# Altium schematic symbol library ic-interface.SchLib: 38 symbols
Pins are listed as number, name and electrical type; pins without a type are passive.

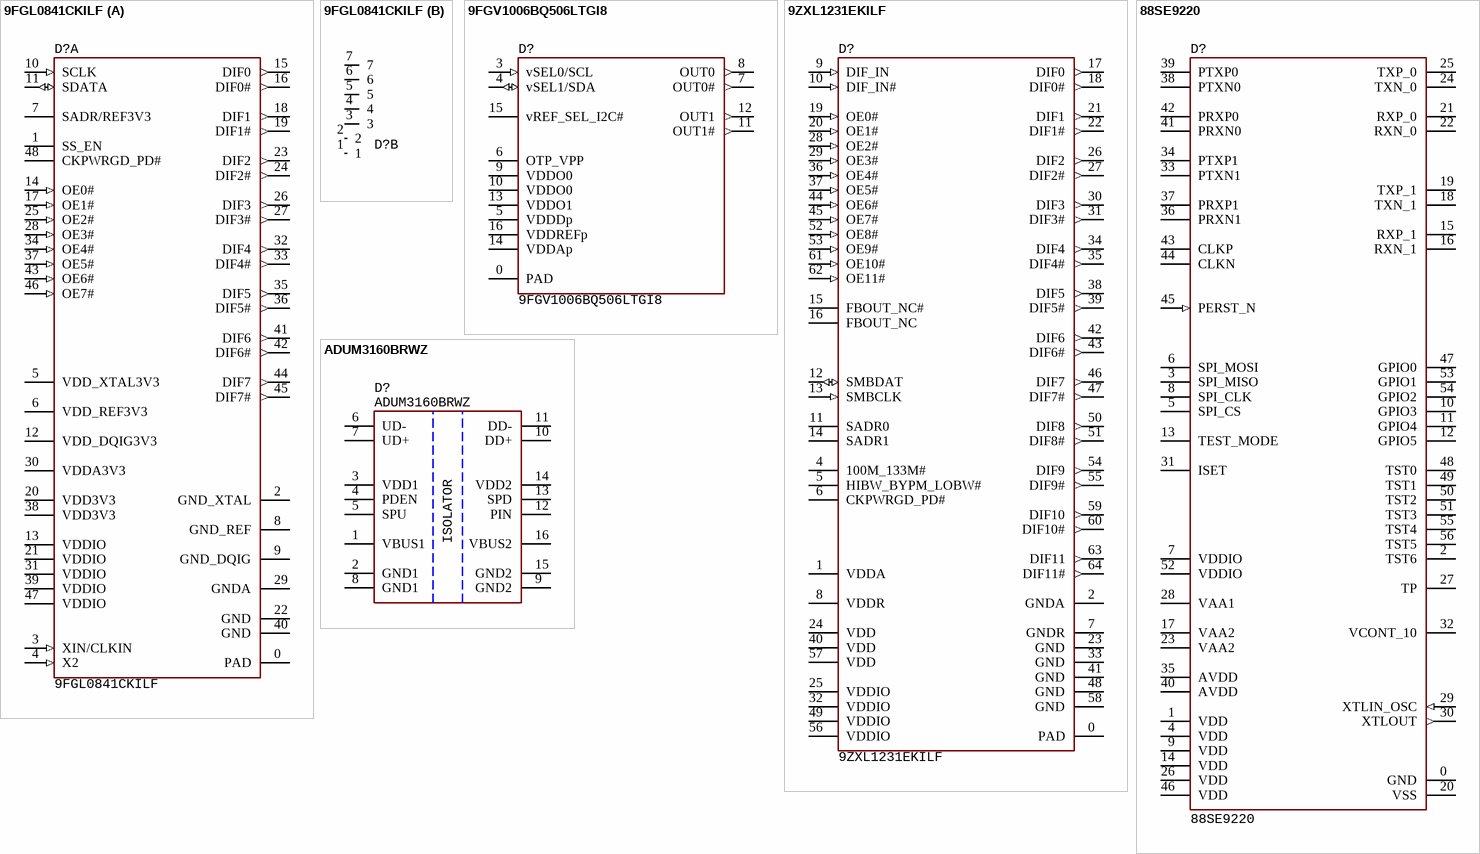
[diagram p0: symbols 9FGL0841CKILF to ADUM3160BRWZ]

## 9FGL0841CKILF
designator D?
Clock Generator, 40 MHz max , 8 output, 50 ps, QFN-48, 3.135...3.465V, -40...+85°C; Manufacturer: Renesans; Manufacturer: Renesas; Package: QFN-48 (6x6); HelpURL: https://ru.mouser.com/ProductDetail/Renesas-IDT/9FGL0841CKILFT?qs=%2Fha2pyFaduhGEOA8c4vMfD8OTnq%2FdZbzgoKZXaJtWyD7utYW6p9OZw%3D%3D; Manufacturer Part Number: 9FGL0841CKILF; Component Type: Oscillators; PartNumber: 9FGL0841CKILF
footprint 48-QFN (6x6, pitch 0.4) (6x6 mm, pitch 0.4 mm, power pad)
part A pins: 0 PAD, 1 SS_EN, 2 GND_XTAL, 3 XIN/CLKIN (in), 4 X2 (in), 5 VDD_XTAL3V3, 6 VDD_REF3V3, 7 SADR/REF3V3, 8 GND_REF, 9 GND_DQIG, 10 SCLK (in), 11 SDATA (io), 12 VDD_DQIG3V3, 13 VDDIO, 14 OE0# (in), 15 DIF0 (out), 16 DIF0# (out), 17 OE1# (in), 18 DIF1 (out), 19 DIF1# (out), 20 VDD3V3, 21 VDDIO, 22 GND, 23 DIF2 (out), 24 DIF2# (out), 25 OE2# (in), 26 DIF3 (out), 27 DIF3# (out), 28 OE3# (in), 29 GNDA, 30 VDDA3V3, 31 VDDIO, 32 DIF4 (out), 33 DIF4# (out), 34 OE4# (in), 35 DIF5 (out), 36 DIF5# (out), 37 OE5# (in), 38 VDD3V3, 39 VDDIO, 40 GND, 41 DIF6 (out), 42 DIF6# (out), 43 OE6# (in), 44 DIF7 (out), 45 DIF7# (out), 46 OE7# (in), 47 VDDIO, 48 CKPWRGD_PD#
part B pins: 1, 2, 3, 4, 5, 6, 7

## 9FGV1006BQ506LTGI8
designator D?
Clock Generator, 100 MHz, 2 output, 276 fs, LGA-16, 1.71...3.465V, -40...+85°C; Manufacturer: Renesans; Manufacturer: Renesas; Package: LGA-16 (3x3); HelpURL: https://ru.mouser.com/ProductDetail/Renesas-IDT/9FGV1006BQ506LTGI8?qs=qSfuJ%252Bfl%2Fd4WZSWAGC5GJw%3D%3D; Manufacturer Part Number: 9FGV1006BQ506LTGI8; Component Type: Oscillators; PartNumber: 9FGV1006BQ506LTGI8
footprint 16-LGA (3x3) (3x3 mm, pitch 0.5 mm)
pins: 0 PAD, 3 vSEL0/SCL (in), 4 vSEL1/SDA (io), 5 VDDDp, 6 OTP_VPP, 7 OUT0# (out), 8 OUT0 (out), 9 VDDO0, 10 VDDO0, 11 OUT1# (out), 12 OUT1 (out), 13 VDDO1, 14 VDDAp, 15 vREF_SEL_I2C#, 16 VDDREFp

## 9ZXL1231EKILF
designator D?
Clock Buffer, 150 MHz, 12 output, 40 fs, QFN-64, 3.135...3.465V, -40...+85°C; Manufacturer: Renesans; Manufacturer: IDT; Package: QFN-64 (9x9); HelpURL: https://ru.mouser.com/ProductDetail/Renesas-IDT/9ZXL1231EKILF?qs=r5DSvlrkXmKe8Sr8YG1BGw%3D%3D; Manufacturer Part Number: 9ZXL1231EKILF; Component Type: Oscillators; PartNumber: 9ZXL1231EKILF
footprint 64-QFN (9x9, pitch 0.5) (9x9 mm, pitch 0.5 mm, power pad)
pins: 0 PAD, 1 VDDA, 2 GNDA, 4 100M_133M#, 5 HIBW_BYPM_LOBW#, 6 CKPWRGD_PD#, 7 GNDR, 8 VDDR, 9 DIF_IN (in), 10 DIF_IN# (in), 11 SADR0, 12 SMBDAT (io), 13 SMBCLK (in), 14 SADR1, 15 FBOUT_NC#, 16 FBOUT_NC, 17 DIF0 (out), 18 DIF0# (out), 19 OE0# (in), 20 OE1# (in), 21 DIF1 (out), 22 DIF1# (out), 23 GND, 24 VDD, 25 VDDIO, 26 DIF2 (out), 27 DIF2# (out), 28 OE2# (in), 29 OE3# (in), 30 DIF3 (out), 31 DIF3# (out), 32 VDDIO, 33 GND, 34 DIF4 (out), 35 DIF4# (out), 36 OE4# (in), 37 OE5# (in), 38 DIF5 (out), 39 DIF5# (out), 40 VDD, 41 GND, 42 DIF6 (out), 43 DIF6# (out), 44 OE6# (in), 45 OE7# (in), 46 DIF7 (out), 47 DIF7# (out), 48 GND, 49 VDDIO, 50 DIF8 (out), 51 DIF8# (out), 52 OE8# (in), 53 OE9# (in), 54 DIF9 (out), 55 DIF9# (out), 56 VDDIO, 57 VDD, 58 GND, 59 DIF10 (out), 60 DIF10# (out), 61 OE10# (in), 62 OE11# (in), 63 DIF11 (out), 64 DIF11# (out)

## 88SE9220
designator D?
PCIe Gen 2 to SATA, 2 HDDs, 6 GB/s, QFN-56, -40...+85°C; Manufacturer: Marvell; HelpURL: https://www.jmicron.com/products/list/15; Package: QFN-56; PartNumber: 88SE9220
footprint 56-QFN (7x7, pitch 0.4) (7x7 mm, pitch 0.4 mm, power pad)
pins: 0 GND, 1 VDD, 2 TST6, 3 SPI_MISO, 4 VDD, 5 SPI_CS, 6 SPI_MOSI, 7 VDDIO, 8 SPI_CLK, 9 VDD, 10 GPIO3, 11 GPIO4, 12 GPIO5, 13 TEST_MODE, 14 VDD, 15 RXP_1, 16 RXN_1, 17 VAA2, 18 TXN_1, 19 TXP_1, 20 VSS, 21 RXP_0, 22 RXN_0, 23 VAA2, 24 TXN_0, 25 TXP_0, 26 VDD, 27 TP, 28 VAA1, 29 XTLIN_OSC (in), 30 XTLOUT (out), 31 ISET, 32 VCONT_10, 33 PTXN1, 34 PTXP1, 35 AVDD, 36 PRXN1, 37 PRXP1, 38 PTXN0, 39 PTXP0, 40 AVDD, 41 PRXN0, 42 PRXP0, 43 CLKP, 44 CLKN, 45 PERST_N (in), 46 VDD, 47 GPIO0, 48 TST0, 49 TST1, 50 TST2, 51 TST3, 52 VDDIO, 53 GPIO1, 54 GPIO2, 55 TST4, 56 TST5

## ADUM3160BRWZ
designator D?
USB isolator, 12 Mb/s, supply 3.1...5.5V, 2500 Vrms, SOIC-16, -40...+85°C; Manufacture: Analog Devices; HelpURL: https://eu.mouser.com/ProductDetail/Analog-Devices/ADUM3160BRWZ?qs=WIvQP4zGanjmPiCfFUKkZQ%3D%3D; Package: SOIC-16; PartNumber: ADUM3160BRWZ
footprint 16-TSSOP (pitch 1.27 mm)
pins: 1 VBUS1, 2 GND1, 3 VDD1, 4 PDEN, 5 SPU, 6 UD-, 7 UD+, 8 GND1, 9 GND2, 10 DD+, 11 DD-, 12 PIN, 13 SPD, 14 VDD2, 15 GND2, 16 VBUS2
text: ISOLATOR

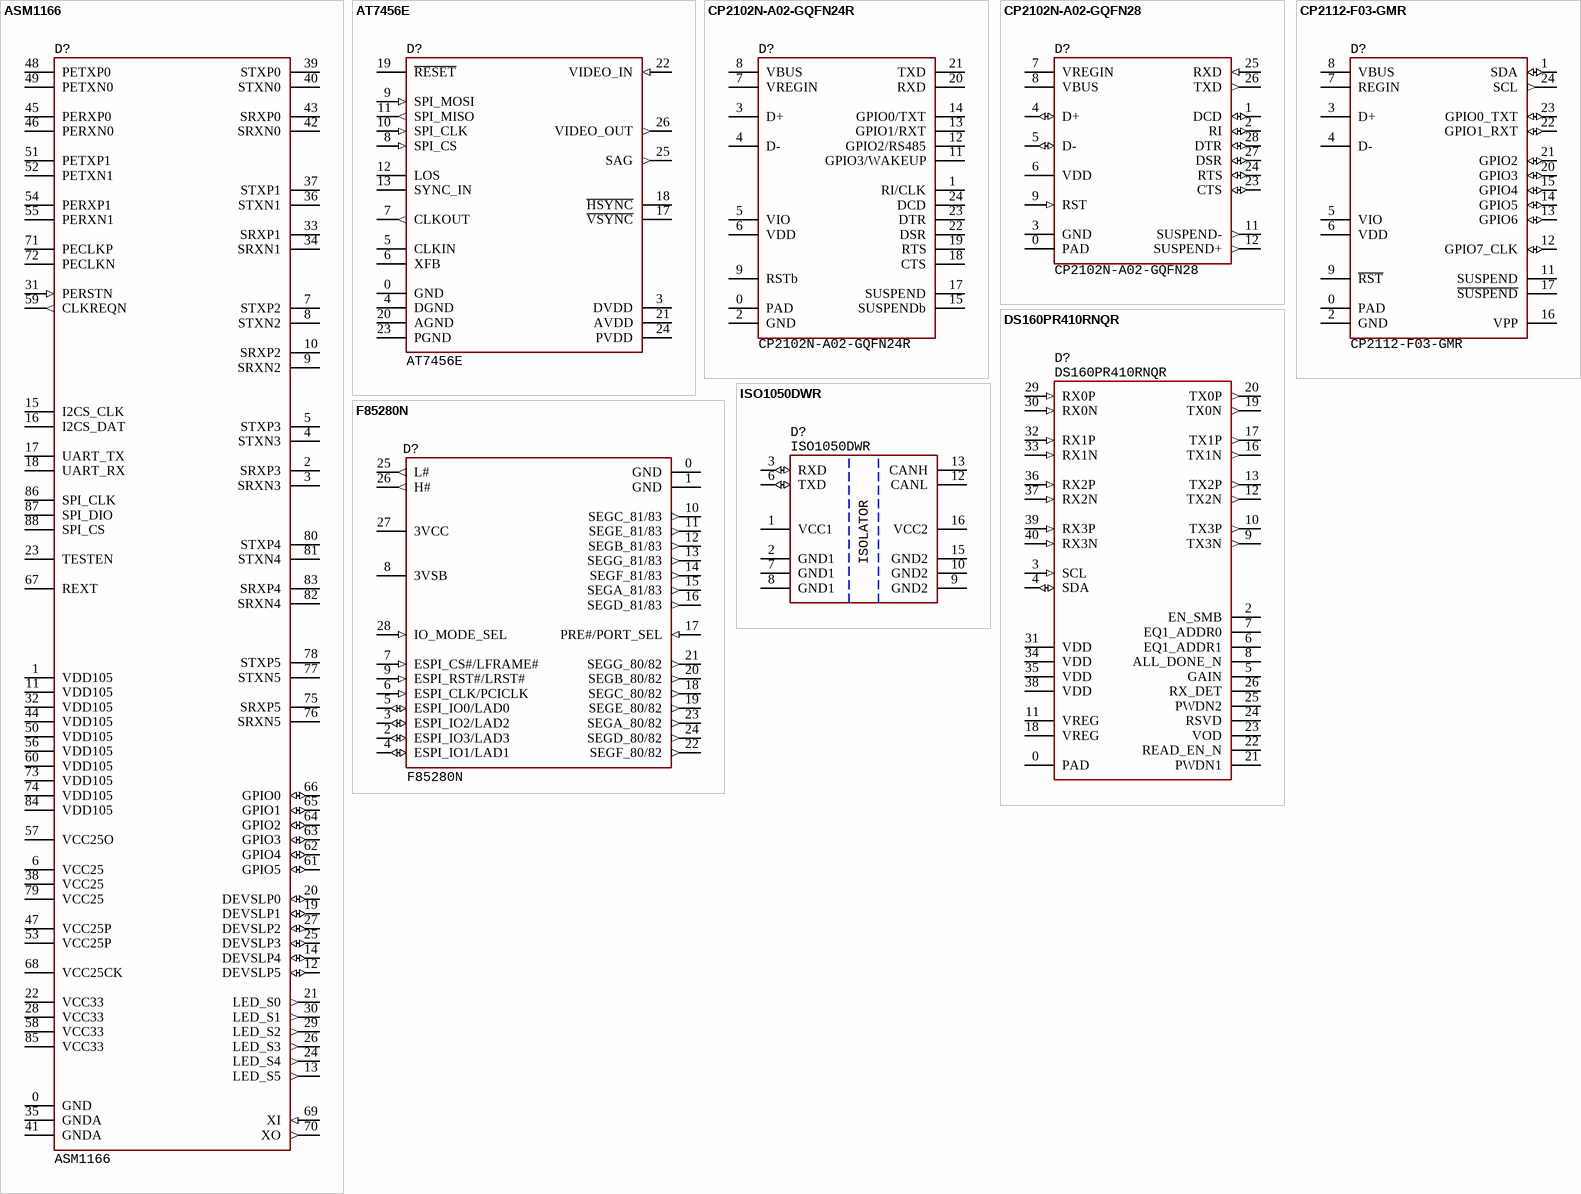
[diagram p1: symbols ASM1166 to ISO1050DWR]

## ASM1166
designator D?
PCIe Gen 2 to SATA, 6 HDDs, 6 GB/s, QFN-88, -40...+85°C; Manufacturer: ASMedia; HelpURL: https://www.asmedia.com.tw/product/45aYq54sP8Qh7WH8/58dYQ8bxZ4UR9wG5; Package: QFN-88; PartNumber: ASM1166
footprint 88-QFN (10x10, pitch 0.4) (10x10 mm, pitch 0.4 mm, power pad)
pins: 0 GND, 1 VDD105, 2 SRXP3, 3 SRXN3, 4 STXN3, 5 STXP3, 6 VCC25, 7 STXP2, 8 STXN2, 9 SRXN2, 10 SRXP2, 11 VDD105, 12 DEVSLP5 (io), 13 LED_S5 (out), 14 DEVSLP4 (io), 15 I2CS_CLK, 16 I2CS_DAT, 17 UART_TX, 18 UART_RX, 19 DEVSLP1 (io), 20 DEVSLP0 (io), 21 LED_S0 (out), 22 VCC33, 23 TESTEN, 24 LED_S4 (out), 25 DEVSLP3 (io), 26 LED_S3 (out), 27 DEVSLP2 (io), 28 VCC33, 29 LED_S2 (out), 30 LED_S1 (out), 31 PERSTN (in), 32 VDD105, 33 SRXP1, 34 SRXN1, 35 GNDA, 36 STXN1, 37 STXP1, 38 VCC25, 39 STXP0, 40 STXN0, 41 GNDA, 42 SRXN0, 43 SRXP0, 44 VDD105, 45 PERXP0, 46 PERXN0, 47 VCC25P, 48 PETXP0, 49 PETXN0, 50 VDD105, 51 PETXP1, 52 PETXN1, 53 VCC25P, 54 PERXP1, 55 PERXN1, 56 VDD105, 57 VCC25O, 58 VCC33, 59 CLKREQN (out), 60 VDD105, 61 GPIO5 (io), 62 GPIO4 (io), 63 GPIO3 (io), 64 GPIO2 (io), 65 GPIO1 (io), 66 GPIO0 (io), 67 REXT, 68 VCC25CK, 69 XI (in), 70 XO (out), 71 PECLKP, 72 PECLKN, 73 VDD105, 74 VDD105, 75 SRXP5, 76 SRXN5, 77 STXN5, 78 STXP5, 79 VCC25, 80 STXP4, 81 STXN4, 82 SRXN4, 83 SRXP4, 84 VDD105, 85 VCC33, 86 SPI_CLK, 87 SPI_DIO, 88 SPI_CS

## AT7456E
designator D?
OSD generator, supply 3.15...5.25V, TSSOP-28, -40...+85°C; Manufacturer: ZHONGKEWEI; HelpURL: https://lcsc.com/product-detail/Microcontroller-Units-MCUs-MPUs-SOCs_ZHONGKEWEI-AT7456E_C82351.html; Package: TSSOP-28; PartNumber: AT7456E
footprint 28-TSSOP-PAD (pitch 0.65 mm)
pins: 0 GND, 3 DVDD, 4 DGND, 5 CLKIN, 6 XFB, 7 CLKOUT (out), 8 SPI_CS (in), 9 SPI_MOSI (in), 10 SPI_CLK (in), 11 SPI_MISO (out), 12 LOS, 13 SYNC_IN, 17 ~{VSYNC}, 18 ~{HSYNC}, 19 ~{RESET}, 20 AGND, 21 AVDD, 22 VIDEO_IN (in), 23 PGND, 24 PVDD, 25 SAG (out), 26 VIDEO_OUT (out)

## CP2102N-A02-GQFN24R
designator D?
USB-to-UART, USB2.0, QFN-24, 3...3.6V, -40...+85°C; Manufacturer: Silicon Labs; Package: QFN-24; HelpURL: https://www.digikey.com/product-detail/en/silicon-labs/CP2102N-A02-GQFN28/336-5889-ND/9863477; PartNumber: CP2102N-A02-GQFN24R
footprint 24-QFN (4x4, pitch 0.5) (4x4 mm, pitch 0.5 mm, power pad)
pins: 0 PAD, 1 RI/CLK, 2 GND, 3 D+, 4 D-, 5 VIO, 6 VDD, 7 VREGIN, 8 VBUS, 9 RSTb, 11 GPIO3/WAKEUP, 12 GPIO2/RS485, 13 GPIO1/RXT, 14 GPIO0/TXT, 15 SUSPENDb, 17 SUSPEND, 18 CTS, 19 RTS, 20 RXD, 21 TXD, 22 DSR, 23 DTR, 24 DCD

## CP2102N-A02-GQFN28
designator D?  PartNumber: CP2102N-A02-GQFN28
USB-to-UART, USB2.0, QFN-28, 3...3.6V, -40...+85°C; Manufacturer: Silicon Labs; HelpURL: https://www.digikey.com/product-detail/en/silicon-labs/CP2102N-A02-GQFN28/336-5889-ND/9863477; Package: QFN-28
footprint 28-QFN (5x5, pitch 0.5) (5x5 mm, pitch 0.5 mm, power pad)
pins: 0 PAD, 1 DCD (io), 2 RI (io), 3 GND, 4 D+ (io), 5 D- (io), 6 VDD, 7 VREGIN, 8 VBUS, 9 RST (in), 11 SUSPEND- (out), 12 SUSPEND+ (out), 23 CTS (io), 24 RTS (io), 25 RXD (in), 26 TXD (out), 27 DSR (io), 28 DTR (io)

## CP2112-F03-GMR
designator D?
USB-to-I2C, USB2.0, QFN-24, 3...3.6V, -40...+85°C; Manufacturer: Silicon Labs; Package: QFN-24; HelpURL: https://nl.mouser.com/ProductDetail/Silicon-Labs/CP2112-F03-GMR?qs=5aG0NVq1C4xTtcRh7H2oKQ%3D%3D; PartNumber: CP2112-F03-GMR
footprint 24-QFN (4x4, pitch 0.5) (4x4 mm, pitch 0.5 mm, power pad)
pins: 0 PAD, 1 SDA (io), 2 GND, 3 D+, 4 D-, 5 VIO, 6 VDD, 7 REGIN, 8 VBUS, 9 ~{RST}, 11 SUSPEND, 12 GPIO7_CLK (io), 13 GPIO6 (io), 14 GPIO5 (io), 15 GPIO4 (io), 16 VPP, 17 ~{SUSPEND}, 20 GPIO3 (io), 21 GPIO2 (io), 22 GPIO1_RXT (io), 23 GPIO0_TXT (io), 24 SCL (out)

## DS160PR410RNQR
designator D?
Redriver, PCIe Gen 4, 25 GT/s, supply 3...3.6V, 150 mA, -40...+85°C; Manufacture: Texas Instruments; HelpURL: https://eu.mouser.com/ProductDetail/Texas-Instruments/DS160PR410RNQT?qs=BJlw7L4Cy7%252Bot0MDZ1LsrA%3D%3D; Package: WQFN-40; PartNumber: DS160PR410RNQR
footprint 40-WQFN (6x4, pitch 0.4) (PQFN, 40-Leads, Body 6,00x4,00mm, Pitch 0,40mm, Thermal Pad 4,70x2,70mm, IPC Medium Density)
pins: 0 PAD, 2 EN_SMB, 3 SCL (in), 4 SDA (io), 5 GAIN, 6 EQ1_ADDR1, 7 EQ1_ADDR0, 8 ALL_DONE_N, 9 TX3N (out), 10 TX3P (out), 11 VREG, 12 TX2N (out), 13 TX2P (out), 16 TX1N (out), 17 TX1P (out), 18 VREG, 19 TX0N (out), 20 TX0P (out), 21 PWDN1, 22 READ_EN_N, 23 VOD, 24 RSVD, 25 PWDN2, 26 RX_DET, 29 RX0P (in), 30 RX0N (in), 31 VDD, 32 RX1P (in), 33 RX1N (in), 34 VDD, 35 VDD, 36 RX2P (in), 37 RX2N (in), 38 VDD, 39 RX3P (in), 40 RX3N (in)

## F85280N
designator D?
LPC eSPI interface, 3.3V, QFN-28, -40...+85°C; Manufacturer: Fintek; Package: 28-QFN; HelpURL: https://www.fintek.com.tw/index.php/products/i-o-controller-and-i-f-management/item/187-f85280; PartNumber: F85280N
footprint 28-QFN (4x4, pitch 0.45) (4x4 mm, pitch 0.45 mm, power pad)
pins: 0 GND (power), 1 GND (power), 2 ESPI_IO3/LAD3 (io), 3 ESPI_IO2/LAD2 (io), 4 ESPI_IO1/LAD1 (io), 5 ESPI_IO0/LAD0 (io), 6 ESPI_CLK/PCICLK (in), 7 ESPI_CS#/LFRAME# (in), 8 3VSB (power), 9 ESPI_RST#/LRST# (in), 10 SEGC_81/83 (out), 11 SEGE_81/83 (out), 12 SEGB_81/83 (out), 13 SEGG_81/83 (out), 14 SEGF_81/83 (out), 15 SEGA_81/83 (out), 16 SEGD_81/83 (out), 17 PRE#/PORT_SEL (in), 18 SEGC_80/82 (out), 19 SEGE_80/82 (out), 20 SEGB_80/82 (out), 21 SEGG_80/82 (out), 22 SEGF_80/82 (out), 23 SEGA_80/82 (out), 24 SEGD_80/82 (out), 25 L# (out), 26 H# (out), 27 3VCC (power), 28 IO_MODE_SEL (in)

## ISO1050DWR
designator D?
CAN isolator, 1 Mb/s, supply 3...5.5V, 5000 Vrms, -55...+105°C; Manufacturer: Texas Instruments; HelpURL: https://eu.mouser.com/ProductDetail/Texas-Instruments/ISO1050DWR?qs=GI4%2FryNtbd1EIRlQ1wb3OA%3D%3D; Package: TSSOP-16; PartNumber: ISO1050DWR
footprint 16-TSSOP (pitch 1.27 mm)
pins: 1 VCC1, 2 GND1, 3 RXD (io), 6 TXD (io), 7 GND1, 8 GND1, 9 GND2, 10 GND2, 12 CANL, 13 CANH, 15 GND2, 16 VCC2
text: ISOLATOR

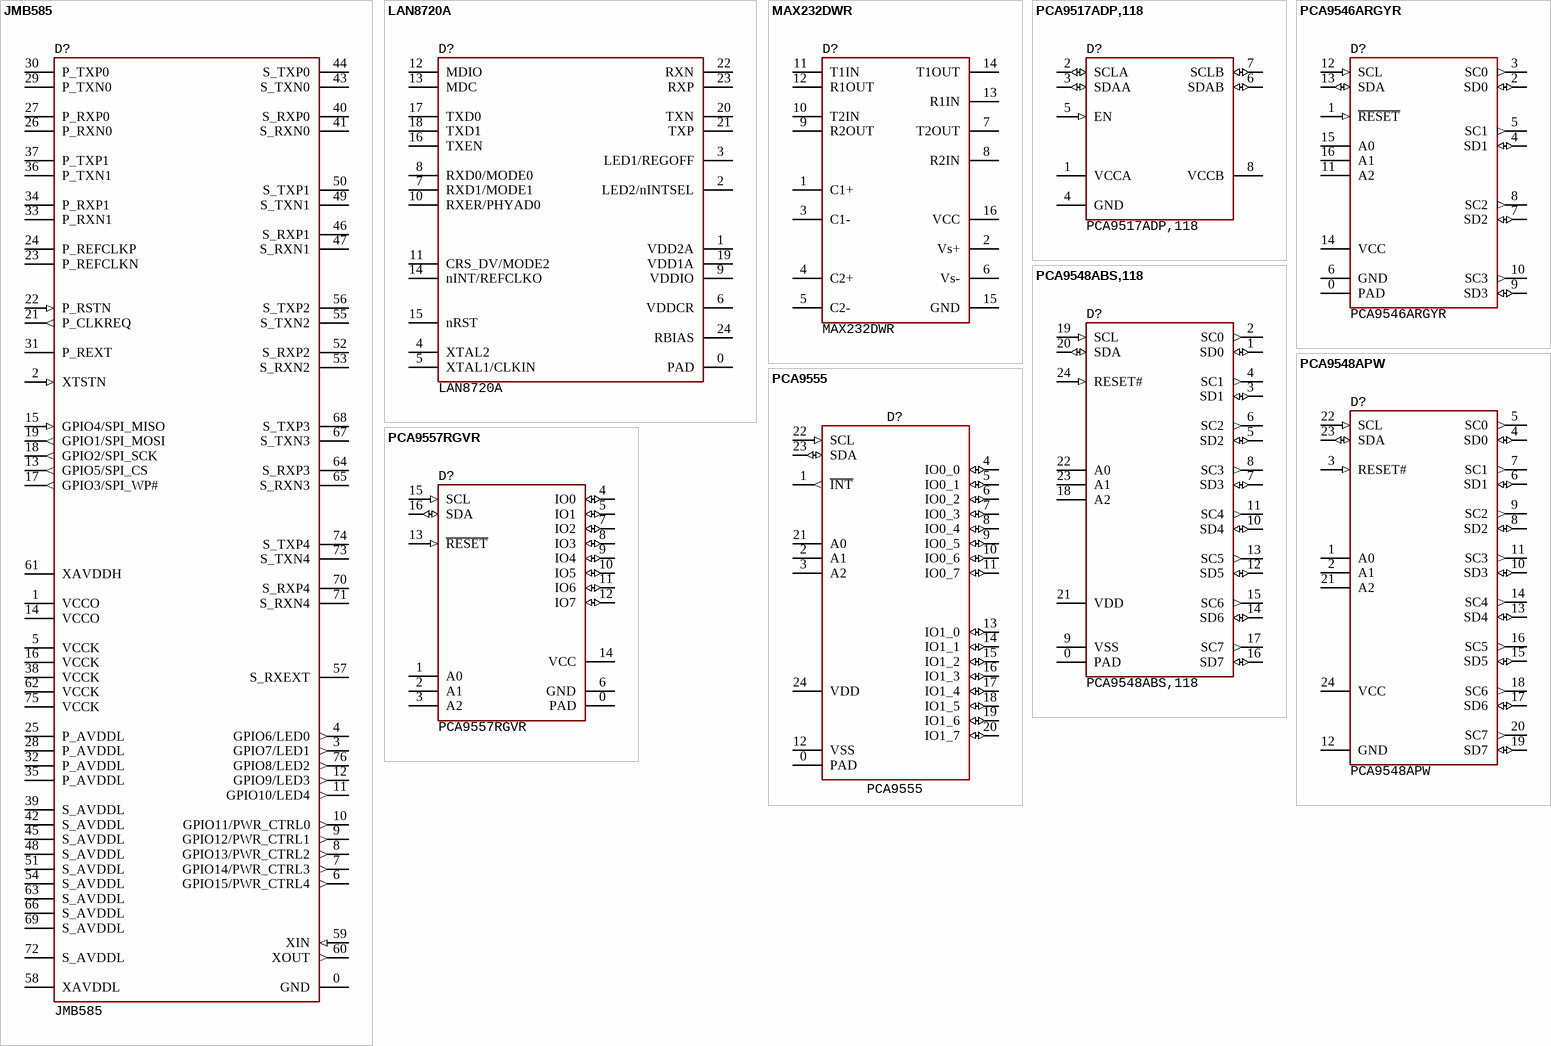
[diagram p2: symbols JMB585 to PCA9557RGVR]

## JMB585
designator D?
PCIe Gen 3 to SATA, 5 HDDs, 6 GB/s, QFN-76, -40...+85°C; Manufacturer: JMicron; HelpURL: https://www.jmicron.com/products/list/15; Package: QFN-76; PartNumber: JMB585
footprint 76-QFN (9x9, pitch 0.4) (9x9 mm, pitch 0.4 mm, power pad)
pins: 0 GND, 1 VCCO, 2 XTSTN (in), 3 GPIO7/LED1 (out), 4 GPIO6/LED0 (out), 5 VCCK, 6 GPIO15/PWR_CTRL4 (out), 7 GPIO14/PWR_CTRL3 (out), 8 GPIO13/PWR_CTRL2 (out), 9 GPIO12/PWR_CTRL1 (out), 10 GPIO11/PWR_CTRL0 (out), 11 GPIO10/LED4 (out), 12 GPIO9/LED3 (out), 13 GPIO5/SPI_CS (out), 14 VCCO, 15 GPIO4/SPI_MISO (in), 16 VCCK, 17 GPIO3/SPI_WP# (out), 18 GPIO2/SPI_SCK (out), 19 GPIO1/SPI_MOSI (out), 21 P_CLKREQ (out), 22 P_RSTN (in), 23 P_REFCLKN, 24 P_REFCLKP, 25 P_AVDDL, 26 P_RXN0, 27 P_RXP0, 28 P_AVDDL, 29 P_TXN0, 30 P_TXP0, 31 P_REXT, 32 P_AVDDL, 33 P_RXN1, 34 P_RXP1, 35 P_AVDDL, 36 P_TXN1, 37 P_TXP1, 38 VCCK, 39 S_AVDDL, 40 S_RXP0, 41 S_RXN0, 42 S_AVDDL, 43 S_TXN0, 44 S_TXP0, 45 S_AVDDL, 46 S_RXP1, 47 S_RXN1, 48 S_AVDDL, 49 S_TXN1, 50 S_TXP1, 51 S_AVDDL, 52 S_RXP2, 53 S_RXN2, 54 S_AVDDL, 55 S_TXN2, 56 S_TXP2, 57 S_RXEXT, 58 XAVDDL, 59 XIN (in), 60 XOUT (out), 61 XAVDDH, 62 VCCK, 63 S_AVDDL, 64 S_RXP3, 65 S_RXN3, 66 S_AVDDL, 67 S_TXN3, 68 S_TXP3, 69 S_AVDDL, 70 S_RXP4, 71 S_RXN4, 72 S_AVDDL, 73 S_TXN4, 74 S_TXP4, 75 VCCK, 76 GPIO8/LED2 (out)

## LAN8720A
designator D?  PartNumber: LAN8720A
Ethernet PHY, 10/100 Mbps, RMII, supply 1.6...3.6V, QFN-24, 0...+85°C; Manufacturer: Microchip Technology; HelpURL: https://www.digikey.com/en/products/detail/microchip-technology/LAN8720A-CP-ABC/6192901; Package: 24-QFN (4x4); ComponentType: IC ethernet transceiver
footprint 24-QFN (4x4, pitch 0.5) (4x4 mm, pitch 0.5 mm, power pad)
pins: 0 PAD, 1 VDD2A, 2 LED2/nINTSEL, 3 LED1/REGOFF, 4 XTAL2, 5 XTAL1/CLKIN, 6 VDDCR, 7 RXD1/MODE1, 8 RXD0/MODE0, 9 VDDIO, 10 RXER/PHYAD0, 11 CRS_DV/MODE2, 12 MDIO, 13 MDC, 14 nINT/REFCLKO, 15 nRST, 16 TXEN, 17 TXD0, 18 TXD1, 19 VDD1A, 20 TXN, 21 TXP, 22 RXN, 23 RXP, 24 RBIAS

## MAX232DWR
designator D?
RS232-to-UART, USB2.0, TSSOP-16, supply 4.5...5.5V, -65...+150°C; Manufacturer: Texas Instruments; HelpURL: https://ru.mouser.com/ProductDetail/Texas-Instruments/MAX232DWR?qs=w32V8uFkMxnk27vwdDfeiw%3D%3D; Package: 16-TSSOP; Manufacturer Part Number: MAX232DWR; Component Type: Interface; PartNumber: MAX232DWR
footprint 16-TSSOP (pitch 1.27 mm)
pins: 1 C1+, 2 Vs+, 3 C1-, 4 C2+, 5 C2-, 6 Vs-, 7 T2OUT, 8 R2IN, 9 R2OUT, 10 T2IN, 11 T1IN, 12 R1OUT, 13 R1IN, 14 T1OUT, 15 GND, 16 VCC

## PCA9517ADP,118
designator D?
I2C/SMBus repeater and level shifter, 2.7...5.5V, TSSOP-8, -40...+85°C; Manufacturer: NXP; Manufacturer: NXP Semiconductors; HelpURL: https://www.mouser.com/ProductDetail/NXP-Semiconductors/PCA9517ADP118?qs=%2Fha2pyFaduhaWOwtZT3Nn6DoFHze%252BOAsGuVGfscpTEaqWDnmSSHqEQ%3D%3D; Package: TSSOP-8; Manufacturer Part Number: PCA9517ADP,118; Component Type: Interface; PartNumber: PCA9517ADP,118
footprint 8-MSOP (pitch 0.65 mm)
pins: 1 VCCA, 2 SCLA (io), 3 SDAA (io), 4 GND, 5 EN (in), 6 SDAB (io), 7 SCLB (io), 8 VCCB

## PCA9546ARGYR
designator D?
I2C/SMBus switch, 4 channels, 2.3...5.5V, VQFN-16, -40...+85°C; Manufacturer: Texas Instruments; HelpURL: https://ru.mouser.com/ProductDetail/Texas-Instruments/PCA9546ARGYR?qs=wgAEGBTxy7n4yI5LDsjQfA%3D%3D; Package: VQFN-24 (4x4); PartNumber: PCA9546ARGYR
footprint 16-QFN (4x4) (4x4 mm, pitch 0.65 mm)
pins: 0 PAD, 1 ~{RESET} (in), 2 SD0 (io), 3 SC0 (out), 4 SD1 (io), 5 SC1 (out), 6 GND, 7 SD2 (io), 8 SC2 (out), 9 SD3 (io), 10 SC3 (out), 11 A2, 12 SCL (in), 13 SDA (io), 14 VCC, 15 A0, 16 A1

## PCA9548ABS,118
designator D?
I2C/SMBus switch, 8 channels, 2.3...5.5V, QFN-24, -40...+85°C; Manufacturer: NXP; HelpURL: https://ru.mouser.com/ProductDetail/NXP-Semiconductors/PCA9548ABS118?qs=sGAEpiMZZMt46bMQRT2SLnqXX%2FgRUxX7upXOA1sI3c4%3D; Package: QFN-24 (4x4); PartNumber: PCA9548ABS,118
footprint 24-QFN (4x4, pitch 0.5) (4x4 mm, pitch 0.5 mm, power pad)
pins: 0 PAD, 1 SD0 (io), 2 SC0 (out), 3 SD1 (io), 4 SC1 (out), 5 SD2 (io), 6 SC2 (out), 7 SD3 (io), 8 SC3 (out), 9 VSS, 10 SD4 (io), 11 SC4 (out), 12 SD5 (io), 13 SC5 (out), 14 SD6 (io), 15 SC6 (out), 16 SD7 (io), 17 SC7 (out), 18 A2, 19 SCL (in), 20 SDA (io), 21 VDD, 22 A0, 23 A1, 24 RESET# (in)

## PCA9548APW
designator D?
I2C/SMBus switch, 8 channels, 2.3...5.5V, TSSOP-24, -40...+85°C; Manufacturer: Texas instruments; HelpURL: https://ru.mouser.com/ProductDetail/Texas-Instruments/PCA9548APW?qs=sGAEpiMZZMuGN2ig0xo6G4omjWVEULc6; Package: TSSOP-24; PartNumber: PCA9548APW
footprint 24-TSSOP (4x4 mm, pitch 0.5 mm, power pad)
pins: 1 A0, 2 A1, 3 RESET# (in), 4 SD0 (io), 5 SC0 (out), 6 SD1 (io), 7 SC1 (out), 8 SD2 (io), 9 SC2 (out), 10 SD3 (io), 11 SC3 (out), 12 GND, 13 SD4 (io), 14 SC4 (out), 15 SD5 (io), 16 SC5 (out), 17 SD6 (io), 18 SC6 (out), 19 SD7 (io), 20 SC7 (out), 21 A2, 22 SCL (in), 23 SDA (io), 24 VCC

## PCA9555
designator D?
I2C/SMBus I/O port with interrupt, 2.3...5.5V, VQFN-24, -40...+85°C; Manufacturer: Texas instruments; Manufacturer Part Number: TCA9548ARGER; Package: VQFN-24 (4x4); HelpURL: https://ru.mouser.com/ProductDetail/Texas-Instruments/TCA9548ARGER?qs=2I4pGxj2dxUewY0zSIpfWQ%3D%3D; Manufacturer: Texas Instruments; Component Type: Interface; PartNumber: PCA9555
footprint 24-QFN (4x4, pitch 0.5) (4x4 mm, pitch 0.5 mm, power pad)
pins: 0 PAD, 1 ~{INT} (out), 2 A1, 3 A2, 4 IO0_0 (io), 5 IO0_1 (io), 6 IO0_2 (io), 7 IO0_3 (io), 8 IO0_4 (io), 9 IO0_5 (io), 10 IO0_6 (io), 11 IO0_7 (io), 12 VSS, 13 IO1_0 (io), 14 IO1_1 (io), 15 IO1_2 (io), 16 IO1_3 (io), 17 IO1_4 (io), 18 IO1_5 (io), 19 IO1_6 (io), 20 IO1_7 (io), 21 A0, 22 SCL (in), 23 SDA (io), 24 VDD

## PCA9557RGVR
designator D?
I2C/SMBus IO Extender, 8 channels, 1.65...5.5V, QFN-16, -40...+85°C; Manufacturer: Texas Instruments; HelpURL: https://ru.mouser.com/ProductDetail/Texas-Instruments/PCA9557RGVR?qs=%2Fha2pyFadujmN3gRLhN3bmhpBbdqJWDm6%252ByjeZE9hnr2g%252BN7c8VE8w%3D%3D; Package: VQFN-16; PartNumber: PCA9557RGVR
footprint 16-QFN (4x4) (4x4 mm, pitch 0.65 mm)
pins: 0 PAD, 1 A0, 2 A1, 3 A2, 4 IO0 (io), 5 IO1 (io), 6 GND, 7 IO2 (io), 8 IO3 (io), 9 IO4 (io), 10 IO5 (io), 11 IO6 (io), 12 IO7 (io), 13 ~{RESET} (in), 14 VCC, 15 SCL (in), 16 SDA (io)

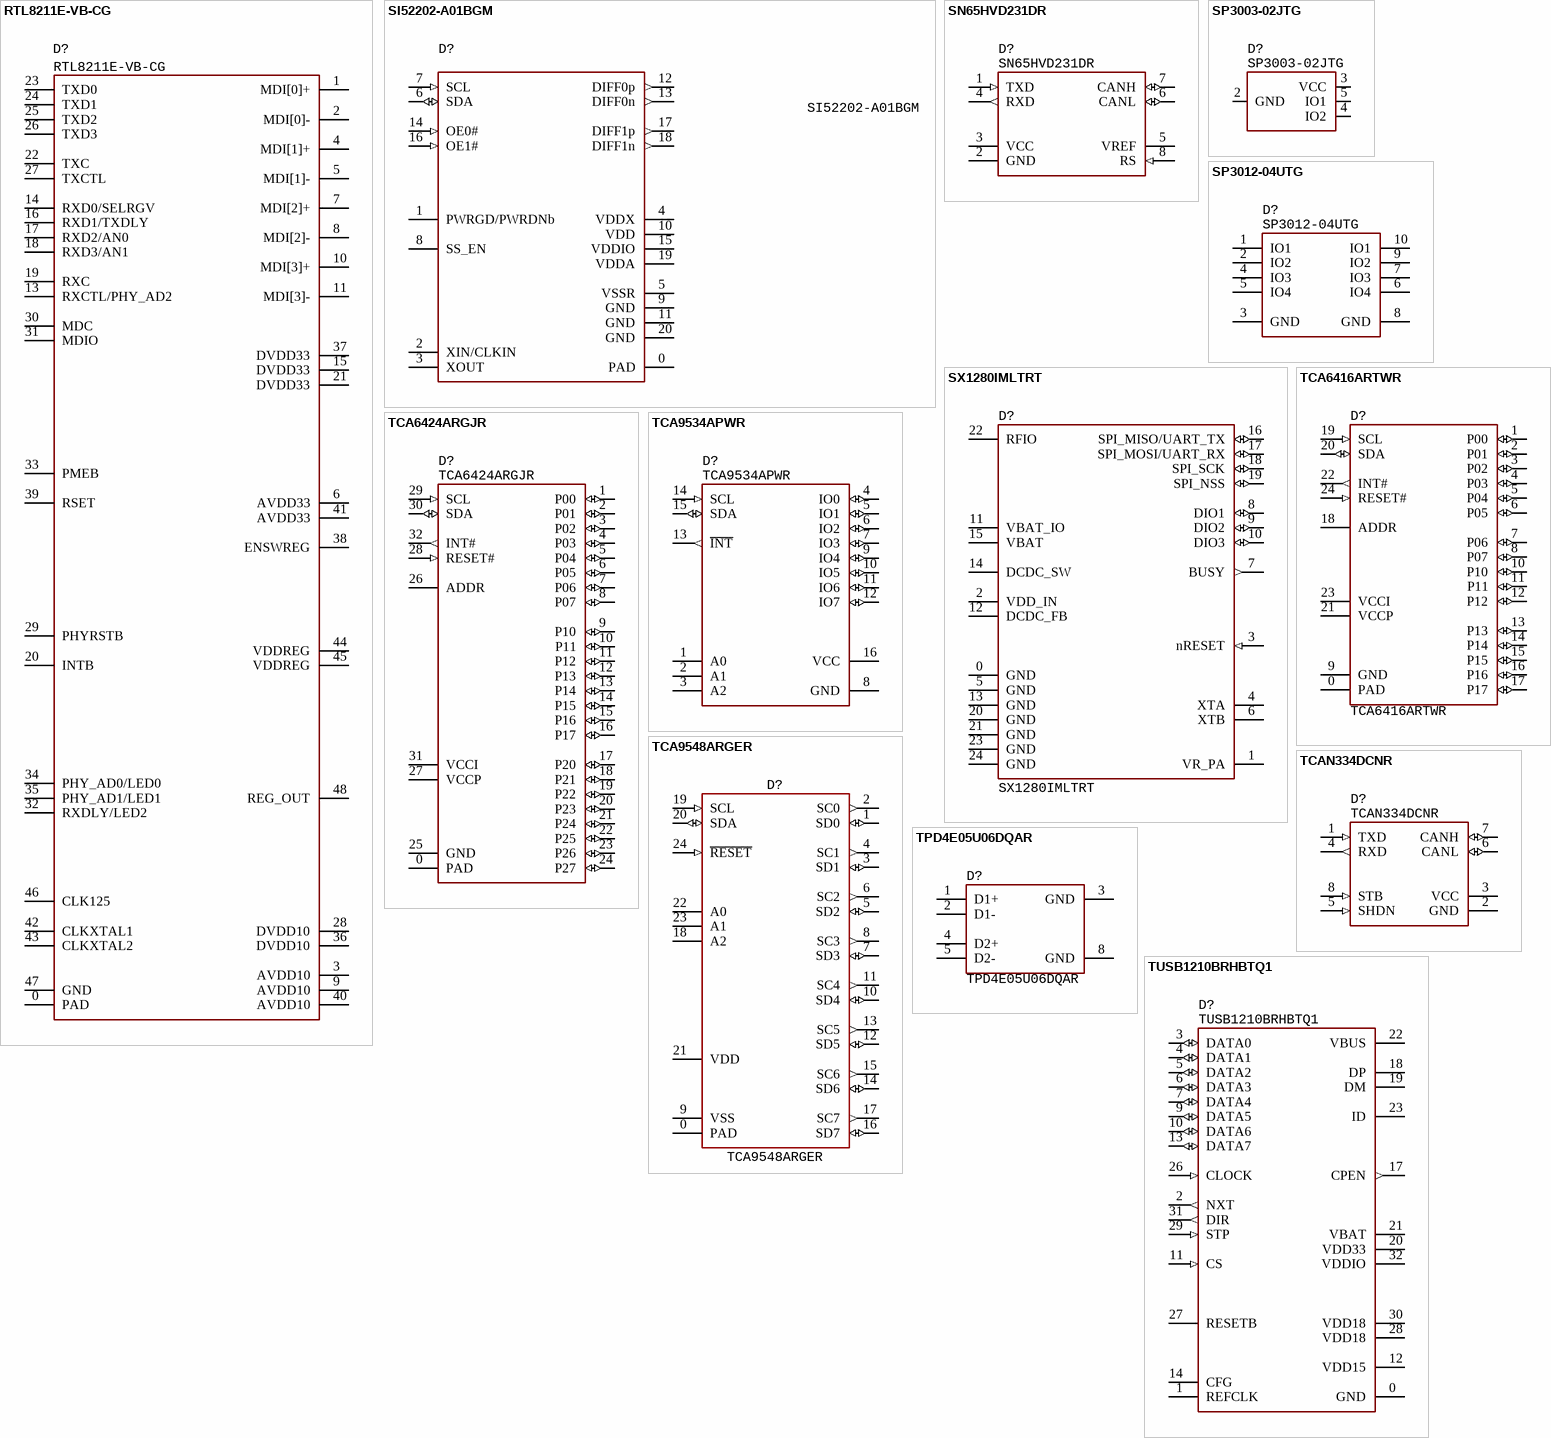
[diagram p3: symbols RTL8211E-VB-CG to TUSB1210BRHBTQ1]

## RTL8211E-VB-CG
designator D?
Ethernet PHY, 10/100/1000 Mbps, RGMII, supply 1.05/3.3V, QFN-48, 0...+70°C; Manufacturer: Realtek; Package: 48-QFN (6x6); HelpURL: https://www.terraelectronica.ru/product/1334504; PartNumber: RTL8211E-VB-CG
footprint 48-QFN (6x6, pitch 0.4) (6x6 mm, pitch 0.4 mm, power pad)
pins: 0 PAD, 1 MDI[0]+, 2 MDI[0]-, 3 AVDD10, 4 MDI[1]+, 5 MDI[1]-, 6 AVDD33, 7 MDI[2]+, 8 MDI[2]-, 9 AVDD10, 10 MDI[3]+, 11 MDI[3]-, 13 RXCTL/PHY_AD2, 14 RXD0/SELRGV, 15 DVDD33, 16 RXD1/TXDLY, 17 RXD2/AN0, 18 RXD3/AN1, 19 RXC, 20 INTB, 21 DVDD33, 22 TXC, 23 TXD0, 24 TXD1, 25 TXD2, 26 TXD3, 27 TXCTL, 28 DVDD10, 29 PHYRSTB, 30 MDC, 31 MDIO, 32 RXDLY/LED2, 33 PMEB, 34 PHY_AD0/LED0, 35 PHY_AD1/LED1, 36 DVDD10, 37 DVDD33, 38 ENSWREG, 39 RSET, 40 AVDD10, 41 AVDD33, 42 CLKXTAL1, 43 CLKXTAL2, 44 VDDREG, 45 VDDREG, 46 CLK125, 47 GND, 48 REG_OUT

## SI52202-A01BGM
designator D?
Clock Generator, PCIe Gen 5, 100 Ohms, 25 MHz, supply 1.71...1.89V, -40...+85°C; Manufacturer: Skyworks; HelpURL: https://eu.mouser.com/ProductDetail/Skyworks-Solutions-Inc/Si52202-A01BGM?qs=XeJtXLiO41Tng25dvhVLaw%3D%3D; Package: *; PartNumber: SI52202-A01BGM
footprint 20-QFN (3x3, pitch 0.4 mm) (3x3 mm, pitch 0.4 mm)
pins: 0 PAD, 1 PWRGD/PWRDNb, 2 XIN/CLKIN, 3 XOUT, 4 VDDX, 5 VSSR, 6 SDA (io), 7 SCL (in), 8 SS_EN, 9 GND, 10 VDD, 11 GND, 12 DIFF0p (out), 13 DIFF0n (out), 14 OE0# (in), 15 VDDIO, 16 OE1# (in), 17 DIFF1p (out), 18 DIFF1n (out), 19 VDDA, 20 GND

## SN65HVD231DR
designator D?
CAN, 1 Mb/s, supply 3...3.6V, SOIC-8, -40...+85°C; Manufacturer: Texas Instruments; HelpURL: https://eu.mouser.com/ProductDetail/Texas-Instruments/SN65HVD231DR?qs=QViXGNcIEAsj60P19N8Org%3D%3D; Package: SOIC-8; PartNumber: SN65HVD231DR
footprint 8-SOIC (pitch 1.27 mm)
pins: 1 TXD (in), 2 GND, 3 VCC, 4 RXD (out), 5 VREF, 6 CANL (io), 7 CANH (io), 8 RS (in)

## SP3003-02JTG
designator D?
Protection ESD, 6V, 2 channels, 0.65 pF, 2.5A peak, SC70-5, -40...+125°C; Manufacturer: Littelfuse; HelpURL: https://eu.mouser.com/ProductDetail/Littelfuse/SP3003-02JTG?qs=je4hkJKt%2FJ1VE%2FhJSW73jg%3D%3D; Package: SC70-5; PartNumber: SP3003-02JTG
footprint SC70-5
pins: 2 GND, 3 VCC, 4 IO2, 5 IO1

## SP3012-04UTG
designator D?
Protection ESD, 5V, 2 channels, 0.5 pF, 4A peak, uDFN-10, -40...+125°C; Manufacturer: Littelfuse; HelpURL: https://eu.mouser.com/ProductDetail/Littelfuse/SP3012-04UTG?qs=5%252ByzHvxwhtrdGo2ISncM%252Bg%3D%3D; Package: uDFN-10; PartNumber: SP3012-04UTG
footprint 10-DFN (2.5x1) (3x3 mm, pitch 0.5 mm, power pad)
pins: 1 IO1, 2 IO2, 3 GND, 4 IO3, 5 IO4, 6 IO4, 7 IO3, 8 GND, 9 IO2, 10 IO1

## SX1280IMLTRT
designator D?
LoRa, 2.4 GHz, 1.3 Mb/s, 12.5 dBm, supply 1.8...3.7V, QFN-24, -40...+85°C; Manufacturer: Semtech; HelpURL: https://eu.mouser.com/ProductDetail/Semtech/SX1280IMLTRT?qs=5aG0NVq1C4xuoq8G6ZzdxQ%3D%3D; Package: QFN-24; PartNumber: SX1280IMLTRT
footprint 24-QFN (4x4, pitch 0.5) (4x4 mm, pitch 0.5 mm, power pad)
pins: 0 GND, 1 VR_PA, 2 VDD_IN, 3 nRESET (in), 4 XTA, 5 GND, 6 XTB, 7 BUSY (out), 8 DIO1 (io), 9 DIO2 (io), 10 DIO3 (io), 11 VBAT_IO, 12 DCDC_FB, 13 GND, 14 DCDC_SW, 15 VBAT, 16 SPI_MISO/UART_TX (io), 17 SPI_MOSI/UART_RX (io), 18 SPI_SCK (io), 19 SPI_NSS (io), 20 GND, 21 GND, 22 RFIO, 23 GND, 24 GND

## TCA6416ARTWR
designator D?
I2C/SMBus IO Expander, 16 I/O, 1.65...5.5V, WQFN-24, -40...+85°C; Manufacturer: Texas instruments; Package: WQFN-24; HelpURL: https://ru.mouser.com/ProductDetail/Texas-Instruments/TCA6416ARTWR?qs=%2Fha2pyFaduhO0%252Bt8Xez%2FzGBX7NFcg9TqpfgmMlhVGGA6k%2FyF1Ob91Q%3D%3D; Manufacturer: Texas Instruments; Manufacturer Part Number: TCA6416ARTWR; Component Type: Interface; PartNumber: TCA6416ARTWR
footprint 24-QFN (4x4, pitch 0.5) (4x4 mm, pitch 0.5 mm, power pad)
pins: 0 PAD, 1 P00 (io), 2 P01 (io), 3 P02 (io), 4 P03 (io), 5 P04 (io), 6 P05 (io), 7 P06 (io), 8 P07 (io), 9 GND, 10 P10 (io), 11 P11 (io), 12 P12 (io), 13 P13 (io), 14 P14 (io), 15 P15 (io), 16 P16 (io), 17 P17 (io), 18 ADDR, 19 SCL (in), 20 SDA (io), 21 VCCP, 22 INT# (out), 23 VCCI, 24 RESET# (in)

## TCA6424ARGJR
designator D?
I2C/SMBus IO Extender, 24 channels, 25 mA, 1.65...5.5V, QFN-32, -40...+85°C; Manufacturer: Texas Instruments; HelpURL: https://eu.mouser.com/ProductDetail/Texas-Instruments/TCA6424ARGJR?qs=Ze4%2FuFuz19LzqLgNFpYqlQ%3D%3D; Package: UQFN-32; PartNumber: TCA6424ARGJR
footprint 32-QFN (5x5, pitch 0.5) (5x5 mm, pitch 0.5 mm, power pad)
pins: 0 PAD, 1 P00 (io), 2 P01 (io), 3 P02 (io), 4 P03 (io), 5 P04 (io), 6 P05 (io), 7 P06 (io), 8 P07 (io), 9 P10 (io), 10 P11 (io), 11 P12 (io), 12 P13 (io), 13 P14 (io), 14 P15 (io), 15 P16 (io), 16 P17 (io), 17 P20 (io), 18 P21 (io), 19 P22 (io), 20 P23 (io), 21 P24 (io), 22 P25 (io), 23 P26 (io), 24 P27 (io), 25 GND, 26 ADDR, 27 VCCP, 28 RESET# (in), 29 SCL (in), 30 SDA (io), 31 VCCI, 32 INT# (out)

## TCA9534APWR
designator D?
I2C/SMBus IO Extender, 8 channels, 25 mA, 1.65...5.5V, TSSOP-16, -40...+85°C; Manufacturer: Texas Instruments; HelpURL: https://eu.mouser.com/ProductDetail/Texas-Instruments/TCA9534APWR?qs=asCBFxFfL1RkU8XbvZBOXg%3D%3D; Package: TSSOP-16; PartNumber: TCA9534APWR
footprint 16-SSOP (pitch 0.635 mm)
pins: 1 A0, 2 A1, 3 A2, 4 IO0 (io), 5 IO1 (io), 6 IO2 (io), 7 IO3 (io), 8 GND, 9 IO4 (io), 10 IO5 (io), 11 IO6 (io), 12 IO7 (io), 13 ~{INT} (out), 14 SCL (in), 15 SDA (io), 16 VCC

## TCA9548ARGER
designator D?
I2C/SMBus switch, 8 channels, 1.65...5.5V, VQFN-24, -40...+85°C; Manufacturer: Texas instruments; Package: VQFN-24 (4x4); HelpURL: https://ru.mouser.com/ProductDetail/Texas-Instruments/TCA9548ARGER?qs=2I4pGxj2dxUewY0zSIpfWQ%3D%3D; Manufacturer: Texas Instruments; Manufacturer Part Number: TCA9548ARGER; Component Type: Interface; PartNumber: TCA9548ARGER
footprint 24-QFN (4x4, pitch 0.5) (4x4 mm, pitch 0.5 mm, power pad)
pins: 0 PAD, 1 SD0 (io), 2 SC0 (out), 3 SD1 (io), 4 SC1 (out), 5 SD2 (io), 6 SC2 (out), 7 SD3 (io), 8 SC3 (out), 9 VSS, 10 SD4 (io), 11 SC4 (out), 12 SD5 (io), 13 SC5 (out), 14 SD6 (io), 15 SC6 (out), 16 SD7 (io), 17 SC7 (out), 18 A2, 19 SCL (in), 20 SDA (io), 21 VDD, 22 A0, 23 A1, 24 ~{RESET} (in)

## TCAN334DCNR
designator D?
CAN, 1 Mb/s, supply 3...3.6V, SOT23-8, -40...+85°C; Manufacturer: Texas Instruments; HelpURL: https://eu.mouser.com/ProductDetail/Texas-Instruments/TCAN334DCNR?qs=gMfM3zrbS4q4StM34j%252B2LA%3D%3D; Package: SOT23-8; PartNumber: TCAN334DCNR
footprint SOT23-8 (pitch 0.95 mm)
pins: 1 TXD (in), 2 GND, 3 VCC, 4 RXD (out), 5 SHDN (in), 6 CANL (io), 7 CANH (io), 8 STB (in)

## TPD4E05U06DQAR
designator D?
Protection ESD, 5.5V, 4 channels, 0.5 pF, 5A peak, uDFN-10, -40...+125°C; Manufacturer: Texas Instruments; HelpURL: https://eu.mouser.com/ProductDetail/Texas-Instruments/TPD4E05U06DQAR?qs=%2FCrDlo5IrVPi4woOvWz0qA%3D%3D; Package: DFN-10; PartNumber: TPD4E05U06DQAR
footprint 10-DFN (2.5x1) (3x3 mm, pitch 0.5 mm, power pad)
pins: 1 D1+, 2 D1-, 3 GND, 4 D2+, 5 D2-, 8 GND

## TUSB1210BRHBTQ1
designator D?
USB2.0 PHY, 480 Mb/s, supply 2.7...4.8V, QFN-32, -40...+85°C; Manufacturer: Texas Instruments; HelpURL: https://eu.mouser.com/ProductDetail/Texas-Instruments/TUSB1210BRHBTQ1?qs=asCBFxFfL1Rp81qa4OEGqg%3D%3D; Package: QFN-32; PartNumber: TUSB1210BRHBTQ1
footprint 32-QFN (5x5, pitch 0.5) (5x5 mm, pitch 0.5 mm, power pad)
pins: 0 GND, 1 REFCLK, 2 NXT (out), 3 DATA0 (io), 4 DATA1 (io), 5 DATA2 (io), 6 DATA3 (io), 7 DATA4 (io), 9 DATA5 (io), 10 DATA6 (io), 11 CS (in), 12 VDD15, 13 DATA7 (io), 14 CFG, 17 CPEN (out), 18 DP, 19 DM, 20 VDD33, 21 VBAT, 22 VBUS, 23 ID, 26 CLOCK (in), 27 RESETB, 28 VDD18, 29 STP (in), 30 VDD18, 31 DIR (out), 32 VDDIO

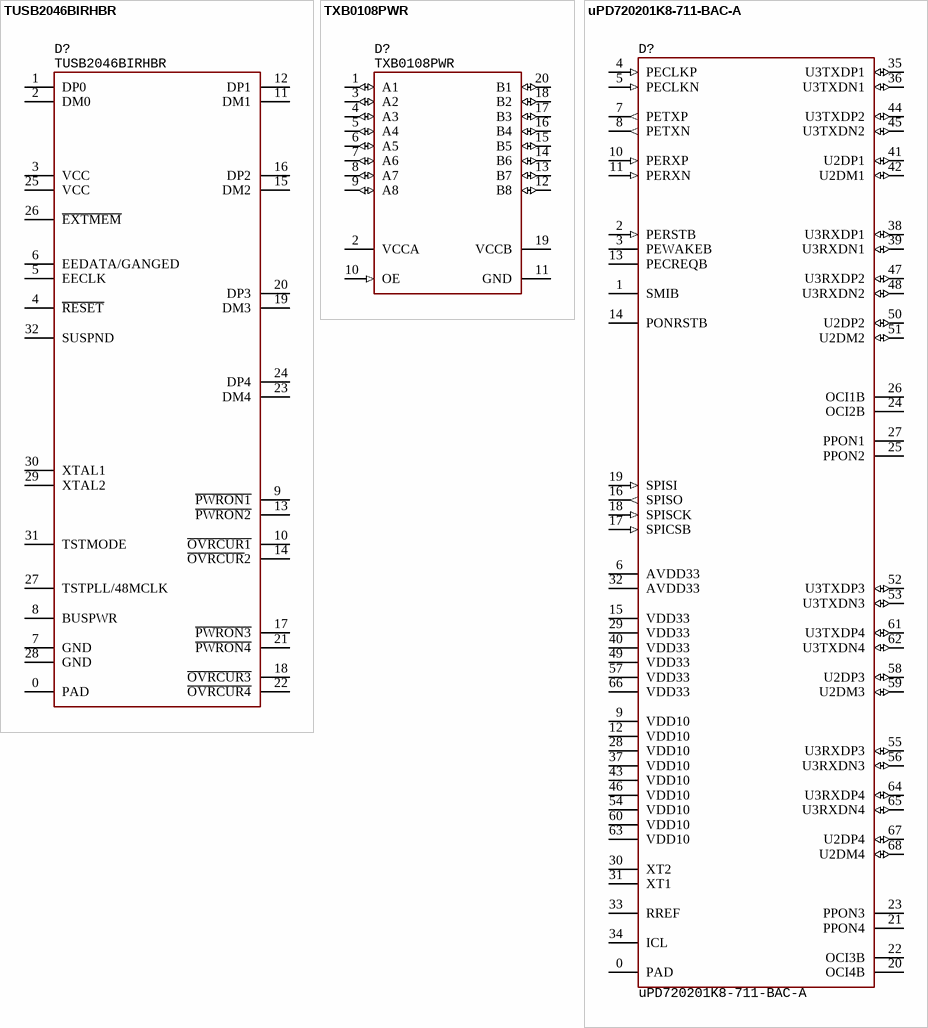
[diagram p4: symbols TUSB2046BIRHBR to uPD720201K8-711-BAC-A]

## TUSB2046BIRHBR
designator D?
USB hub, 4 ports, USB2.0, supply 3...3.6V, QFN-32, -40...+85°C; Manufacturer: Texas Instruments; HelpURL: https://eu.mouser.com/ProductDetail/Texas-Instruments/TUSB2046BIRHBR?qs=0OHPnBYoB%2Fm43hGx4HiInw%3D%3D; Package: QFN-32; PartNumber: TUSB2046BIRHBR
footprint 32-QFN (5x5, pitch 0.5) (5x5 mm, pitch 0.5 mm, power pad)
pins: 0 PAD, 1 DP0, 2 DM0, 3 VCC, 4 ~{RESET}, 5 EECLK, 6 EEDATA/GANGED, 7 GND, 8 BUSPWR, 9 ~{PWRON1}, 10 ~{OVRCUR1}, 11 DM1, 12 DP1, 13 ~{PWRON2}, 14 ~{OVRCUR}2, 15 DM2, 16 DP2, 17 ~{PWRON3}, 18 ~{OVRCUR3}, 19 DM3, 20 DP3, 21 ~{PWRON4}, 22 ~{OVRCUR4}, 23 DM4, 24 DP4, 25 VCC, 26 ~{EXTMEM}, 27 TSTPLL/48MCLK, 28 GND, 29 XTAL2, 30 XTAL1, 31 TSTMODE, 32 SUSPND

## TXB0108PWR
designator D?
Level translator, 100 Mb/s, 1.2...5V level, TSSOP-20, -40...+85°C; Manufacturer: Texas Instruments; HelpURL: https://eu.mouser.com/ProductDetail/Texas-Instruments/TXB0108PWR?qs=oFXvjAmG9EgEUWGWzOVFCA%3D%3D; Package: TSSOP-20; PartNumber: TXB0108PWR
footprint 20-TSSOP (pitch 0.65 mm)
pins: 1 A1 (io), 2 VCCA, 3 A2 (io), 4 A3 (io), 5 A4 (io), 6 A5 (io), 7 A6 (io), 8 A7 (io), 9 A8 (io), 10 OE (in), 11 GND, 12 B8 (io), 13 B7 (io), 14 B6 (io), 15 B5 (io), 16 B4 (io), 17 B3 (io), 18 B2 (io), 19 VCCB, 20 B1 (io)

## uPD720201K8-711-BAC-A
designator D?
PCIe to USB3.0, 5 GT/s, 1.05...3.3V, QFN-68, 0...+85°C; Manufacturer: Renesas; HelpURL: https://ru.mouser.com/ProductDetail/Renesas-Electronics/UPD720201K8-711-BAC-A?qs=ZVKuL1Ob8AszakjYz21rcw%3D%3D; Package: QFN-68 (8x8); PartNumber: uPD720201K8-711-BAC-A
footprint 68-QFN (8x8, pitch 0.5) (9x9 mm, pitch 0.5 mm, power pad)
pins: 0 PAD, 1 SMIB, 2 PERSTB (in), 3 PEWAKEB, 4 PECLKP (in), 5 PECLKN (in), 6 AVDD33, 7 PETXP (out), 8 PETXN (out), 9 VDD10, 10 PERXP (in), 11 PERXN (in), 12 VDD10, 13 PECREQB, 14 PONRSTB, 15 VDD33, 16 SPISO (out), 17 SPICSB (in), 18 SPISCK (in), 19 SPISI (in), 20 OCI4B, 21 PPON4, 22 OCI3B, 23 PPON3, 24 OCI2B, 25 PPON2, 26 OCI1B, 27 PPON1, 28 VDD10, 29 VDD33, 30 XT2, 31 XT1, 32 AVDD33, 33 RREF, 34 ICL, 35 U3TXDP1 (io), 36 U3TXDN1 (io), 37 VDD10, 38 U3RXDP1 (io), 39 U3RXDN1 (io), 40 VDD33, 41 U2DP1 (io), 42 U2DM1 (io), 43 VDD10, 44 U3TXDP2 (io), 45 U3TXDN2 (io), 46 VDD10, 47 U3RXDP2 (io), 48 U3RXDN2 (io), 49 VDD33, 50 U2DP2 (io), 51 U2DM2 (io), 52 U3TXDP3 (io), 53 U3TXDN3 (io), 54 VDD10, 55 U3RXDP3 (io), 56 U3RXDN3 (io), 57 VDD33, 58 U2DP3 (io), 59 U2DM3 (io), 60 VDD10, 61 U3TXDP4 (io), 62 U3TXDN4 (io), 63 VDD10, 64 U3RXDP4 (io), 65 U3RXDN4 (io), 66 VDD33, 67 U2DP4 (io), 68 U2DM4 (io)